# Altium schematic symbol library TLV4082.SchLib: 1 symbol
Pins are listed as number, name and electrical type; pins without a type are passive.

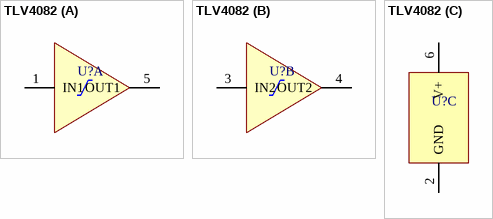
[diagram p0: symbol TLV4082]

## TLV4082
designator U?
part A pins: 1 IN1, 5 OUT1
part B pins: 3 IN2, 4 OUT2
part C pins: 2 GND, 6 V+